# Altium footprint library EMI_PCB_lib.PcbLib: 10 footprints
Each footprint in its own frame and in the unit in brackets; x right, y up, seen from the top. Pads: shape width x height; smd on the part's side, far side on the other; paste and mask are expansions set on the pad; w line width, h text height; cw(c..) or ccw(c..) is an arc to the next point about the centre after c.
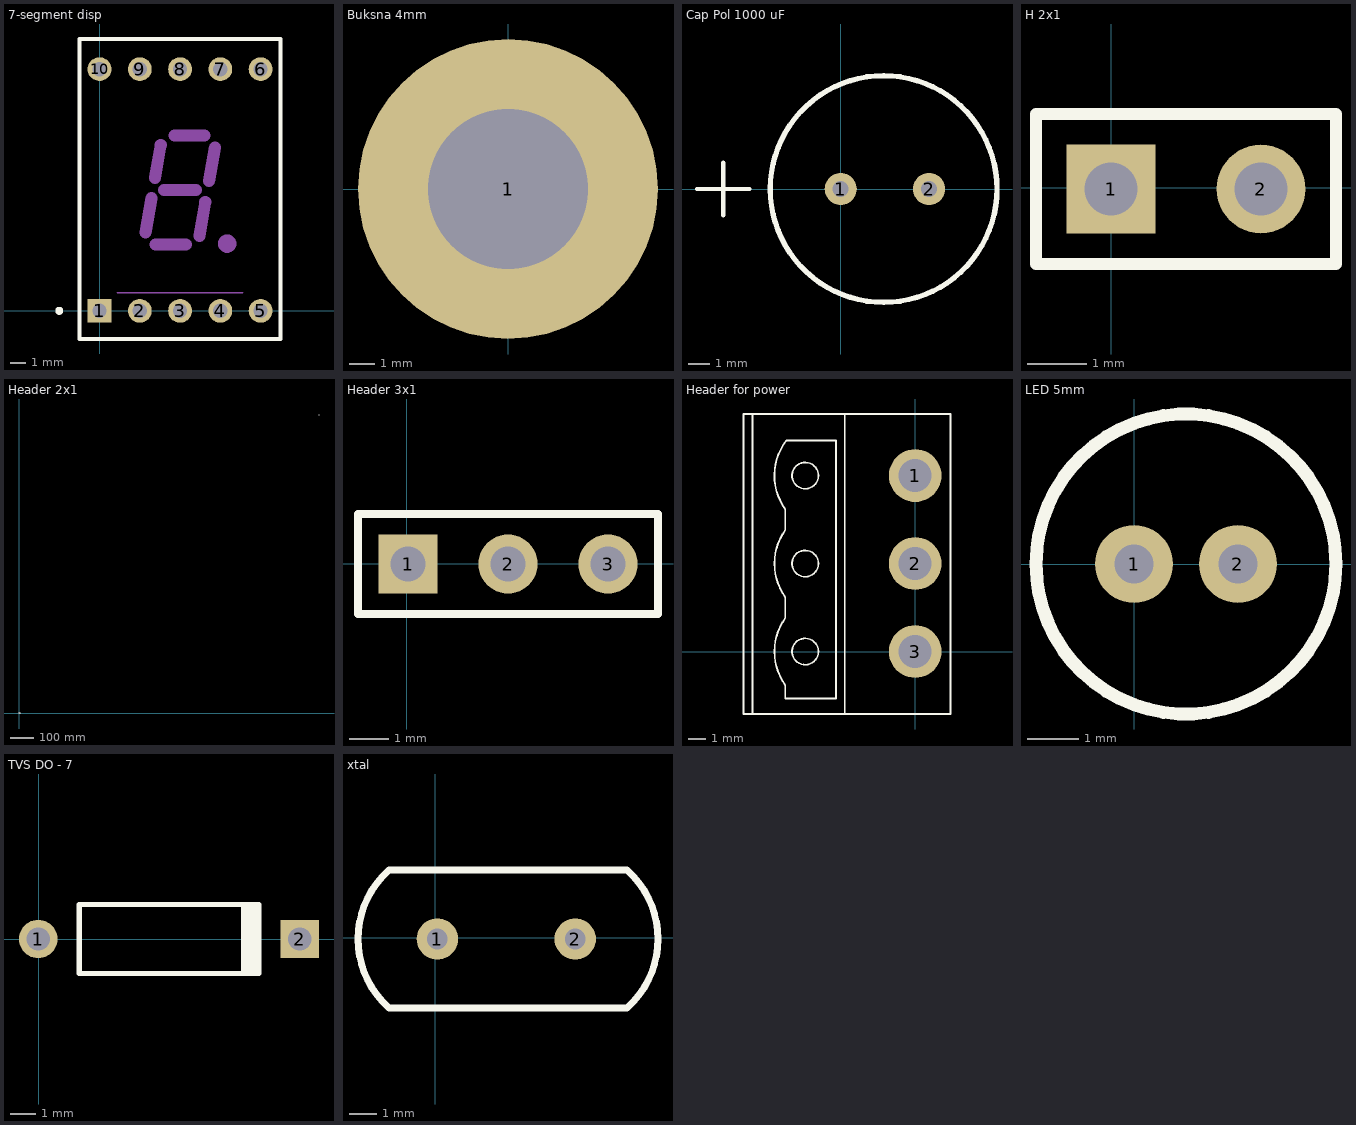
[diagram p0: the footprints below, top view; thin cyan lines are the x and y axes]

## 7-segment disp [mm]
pads (10):
  rect 1.5x1.5 hole 0.9: 1(0,0)
  round 1.5 hole 0.9: 2(2.54,0) 3(5.08,0) 4(7.62,0) 5(10.16,0) 6(10.16,15.24) 7(7.62,15.24) 8(5.08,15.24) 9(2.54,15.24) 10(0,15.24)
Top Overlay:
  circle w0.25: c-2.54,0 r0.125
  lines w0.254: -1.27,-1.778 -1.143,-1.778 11.43,-1.778 11.43,17.145 -1.27,17.145 -1.27,-1.778
Mechanical 1:
  circle w0.86: c8.05,4.24 r0.15
  lines w0.762: 2.89,4.93 3.27,7.1 ; 3.5,8.38 3.86,10.46 ; 3.52,4.19 5.44,4.19 ; 4.076,7.62 6.084,7.62 ; 4.74,11.05 6.63,11.05 ; 6.3,4.73 6.67,6.86 ; 6.9,8.18 7.28,10.31
Mechanical 13:
  lines w0.1: 1.117,1.143 9.017,1.143
3D body "Kingsbright SA56-11EWA.stp": height 8, standoff -4, extent -1.27,-1.905 11.43,17.145

## Buksna 4mm [mil] "Buksna za bananu od 4mm"
pads (1):
  round 470 hole 250: 1(0,0)

## Cap Pol 1000 uF [mil]
pads (2):
  round 60 hole 30: 1(-0.28,0) 2(165,0)
Top Overlay:
  circle w10: c80,0 r212.13
  lines w7.87: -269.21,0 -170.79,0 ; -220,-49.21 -220,49.21
3D body "CapElect_470uF_50V.STEP": height 787.4, standoff -137.8, extent -113.7,-196.85 280,196.85

## H 2x1 [mm]
pads (2):
  rect 1.5x1.5 hole 0.9: 1(0,-0.023)
  round 1.5 hole 0.9: 2(2.54,-0.023)
Top Overlay:
  lines w0.2: -1.27,-1.293 -1.27,1.247 3.81,1.247 3.81,-1.293 -1.27,-1.293

## Header 2x1 [mm]
pads (2):
  rect 1.5x1.5 hole 0.9: 1(0,-0.023)
  round 1.5 hole 0.9: 2(2.54,-0.023)
Top Overlay:
  lines w0.2: -1.27,-1.293 -1.27,1.247 3.81,1.247 3.81,-1.293 -1.27,-1.293
  lines w0.254: 1276.5,1268.807 1276.5,1271.247

## Header 3x1 [mm]
pads (3):
  rect 1.5x1.5 hole 0.9: 1(0.026,-0.006)
  round 1.5 hole 0.9: 2(2.566,-0.006) 3(5.106,-0.006)
Top Overlay:
  lines w0.2: -1.244,-1.276 6.376,-1.276 6.376,1.264 -1.244,1.264 -1.244,-1.276

## Header for power [mil]
pads (3):
  round 120 hole 75: 1(0,400) 2(0,200) 3(0,0)
Top Overlay:
  circle w4: c-250,0 r30
  circle w4: c-250,200 r30
  circle w4: c-250,400 r30
  lines w4: -370,-142 -370,540 ; -292.67,479.74 ccw(c-190,400) -295.14,323.54 -295.14,276.46 ccw(c-190,200) -295.14,123.54 -295.14,76.46 ccw(c-190,0) -295.14,-76.46 -295.14,-107 -180,-107 -180,320 -180,460 ; -292.67,480 -200,480 -180,480 -180,340 ; -180,-80 -180,60 ; -180,-60 -180,80 ; -180,120 -180,260 ; -180,140 -180,280 ; -160,-142 -160,540 ; -390,-142 -390,540 80,540 80,-142 -390,-142

## LED 5mm [mil]
pads (2):
  round 60 hole 30: 1(0,0) 2(80,0)
Top Overlay:
  circle w10: c40,0 r115.43
3D body "LED 5MM GREEN.STEP": height 1137.8, standoff -196.85, extent -72.06,-115 145,117.28

## TVS DO - 7 [mm]
pads (2):
  round 1.5 hole 0.9: 1(-0.02,0)
  rect 1.5x1.5 hole 0.9: 2(10.18,0)
Top Overlay:
  rectangle: 7.88,-1.35 8.68,1.35
  lines w0.2: 8.58,-1.35 1.58,-1.35 1.58,1.35 8.58,1.35
3D body "ST P6KE hor 10_16 (1).stp": height 3.76, standoff -2.25, extent -0.44,-1.778 10.6,1.742

## xtal [mil]
pads (2):
  round 60 hole 30: 1(3.23,-1.5) 2(203.23,-1.5)
Top Overlay:
  lines w10: -66.77,-101.5 cw(c21.84,-1.5) -66.77,98.5 278.23,98.5 cw(c189.62,-1.5) 278.23,-101.5 -66.77,-101.5
3D body "SW3dPS-HP49US.STEP": height 137.8, standoff -157.48, extent -120.2,-91.5 326.65,91.58